# EAGLE library part TSW-D-96 (library con-samtec-tsw)
HEADER
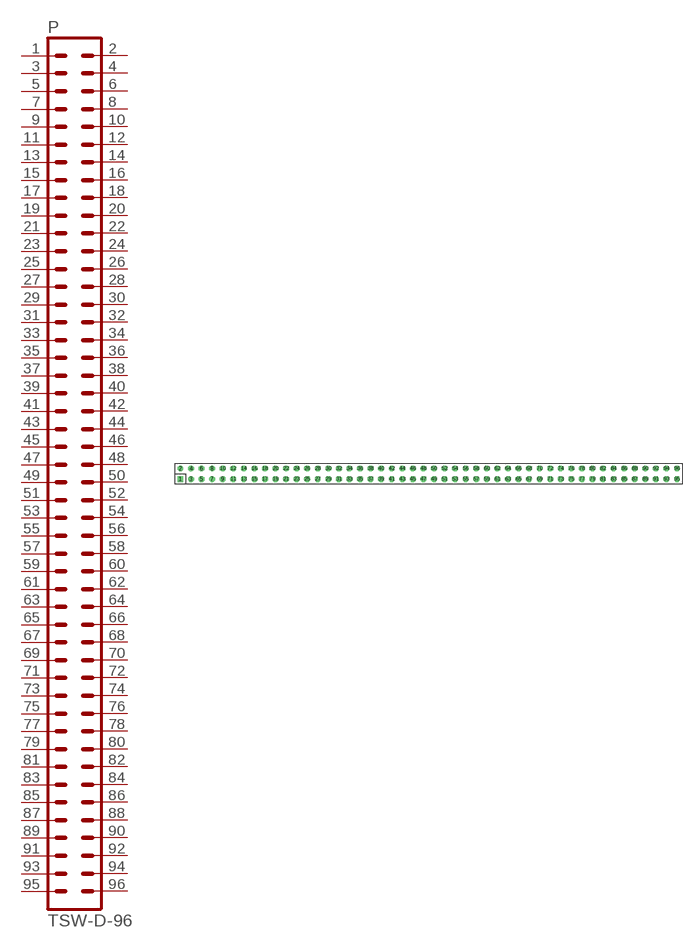
[diagram p135: symbol with the pads of TSW-D-96; footprint TSW-D-96]

Designator prefix P

## TSW-D-96  [TSW-D-96]
1  1  pas
2  2  pas
3  3  pas
4  4  pas
5  5  pas
6  6  pas
7  7  pas
8  8  pas
9  9  pas
10  10  pas
11  11  pas
12  12  pas
13  13  pas
14  14  pas
15  15  pas
16  16  pas
17  17  pas
18  18  pas
19  19  pas
20  20  pas
21  21  pas
22  22  pas
23  23  pas
24  24  pas
25  25  pas
26  26  pas
27  27  pas
28  28  pas
29  29  pas
30  30  pas
31  31  pas
32  32  pas
33  33  pas
34  34  pas
35  35  pas
36  36  pas
37  37  pas
38  38  pas
39  39  pas
40  40  pas
41  41  pas
42  42  pas
43  43  pas
44  44  pas
45  45  pas
46  46  pas
47  47  pas
48  48  pas
49  49  pas
50  50  pas
51  51  pas
52  52  pas
53  53  pas
54  54  pas
55  55  pas
56  56  pas
57  57  pas
58  58  pas
59  59  pas
60  60  pas
61  61  pas
62  62  pas
63  63  pas
64  64  pas
65  65  pas
66  66  pas
67  67  pas
68  68  pas
69  69  pas
70  70  pas
71  71  pas
72  72  pas
73  73  pas
74  74  pas
75  75  pas
76  76  pas
77  77  pas
78  78  pas
79  79  pas
80  80  pas
81  81  pas
82  82  pas
83  83  pas
84  84  pas
85  85  pas
86  86  pas
87  87  pas
88  88  pas
89  89  pas
90  90  pas
91  91  pas
92  92  pas
93  93  pas
94  94  pas
95  95  pas
96  96  pas

## Footprint TSW-D-96 (pad centres in mm)
HEADER
drill 0.914 square: 1 -59.69,-1.27
drill 0.914 octagon: 2 -59.69,1.27; 3 -57.15,-1.27; 4 -57.15,1.27; 5 -54.61,-1.27; 6 -54.61,1.27; 7 -52.07,-1.27; 8 -52.07,1.27; 9 -49.53,-1.27; 10 -49.53,1.27; 11 -46.99,-1.27; 12 -46.99,1.27; 13 -44.45,-1.27; 14 -44.45,1.27; 15 -41.91,-1.27; 16 -41.91,1.27; 17 -39.37,-1.27; 18 -39.37,1.27; 19 -36.83,-1.27; 20 -36.83,1.27; 21 -34.29,-1.27; 22 -34.29,1.27; 23 -31.75,-1.27; 24 -31.75,1.27; 25 -29.21,-1.27; 26 -29.21,1.27; 27 -26.67,-1.27; 28 -26.67,1.27; 29 -24.13,-1.27; 30 -24.13,1.27; 31 -21.59,-1.27; 32 -21.59,1.27; 33 -19.05,-1.27; 34 -19.05,1.27; 35 -16.51,-1.27; 36 -16.51,1.27; 37 -13.97,-1.27; 38 -13.97,1.27; 39 -11.43,-1.27; 40 -11.43,1.27; 41 -8.89,-1.27; 42 -8.89,1.27; 43 -6.35,-1.27; 44 -6.35,1.27; 45 -3.81,-1.27; 46 -3.81,1.27; 47 -1.27,-1.27; 48 -1.27,1.27; 49 1.27,-1.27; 50 1.27,1.27; 51 3.81,-1.27; 52 3.81,1.27; 53 6.35,-1.27; 54 6.35,1.27; 55 8.89,-1.27; 56 8.89,1.27; 57 11.43,-1.27; 58 11.43,1.27; 59 13.97,-1.27; 60 13.97,1.27; 61 16.51,-1.27; 62 16.51,1.27; 63 19.05,-1.27; 64 19.05,1.27; 65 21.59,-1.27; 66 21.59,1.27; 67 24.13,-1.27; 68 24.13,1.27; 69 26.67,-1.27; 70 26.67,1.27; 71 29.21,-1.27; 72 29.21,1.27; 73 31.75,-1.27; 74 31.75,1.27; 75 34.29,-1.27; 76 34.29,1.27; 77 36.83,-1.27; 78 36.83,1.27; 79 39.37,-1.27; 80 39.37,1.27; 81 41.91,-1.27; 82 41.91,1.27; 83 44.45,-1.27; 84 44.45,1.27; 85 46.99,-1.27; 86 46.99,1.27; 87 49.53,-1.27; 88 49.53,1.27; 89 52.07,-1.27; 90 52.07,1.27; 91 54.61,-1.27; 92 54.61,1.27; 93 57.15,-1.27; 94 57.15,1.27; 95 59.69,-1.27; 96 59.69,1.27